# Altium footprint library Indutor.PcbLib: 32 footprints (part 1 of 2)
Each footprint in its own frame and in the unit in brackets; x right, y up, seen from the top. Pads: shape width x height; smd on the part's side, far side on the other; paste and mask are expansions set on the pad; w line width, h text height; cw(c..) or ccw(c..) is an arc to the next point about the centre after c.
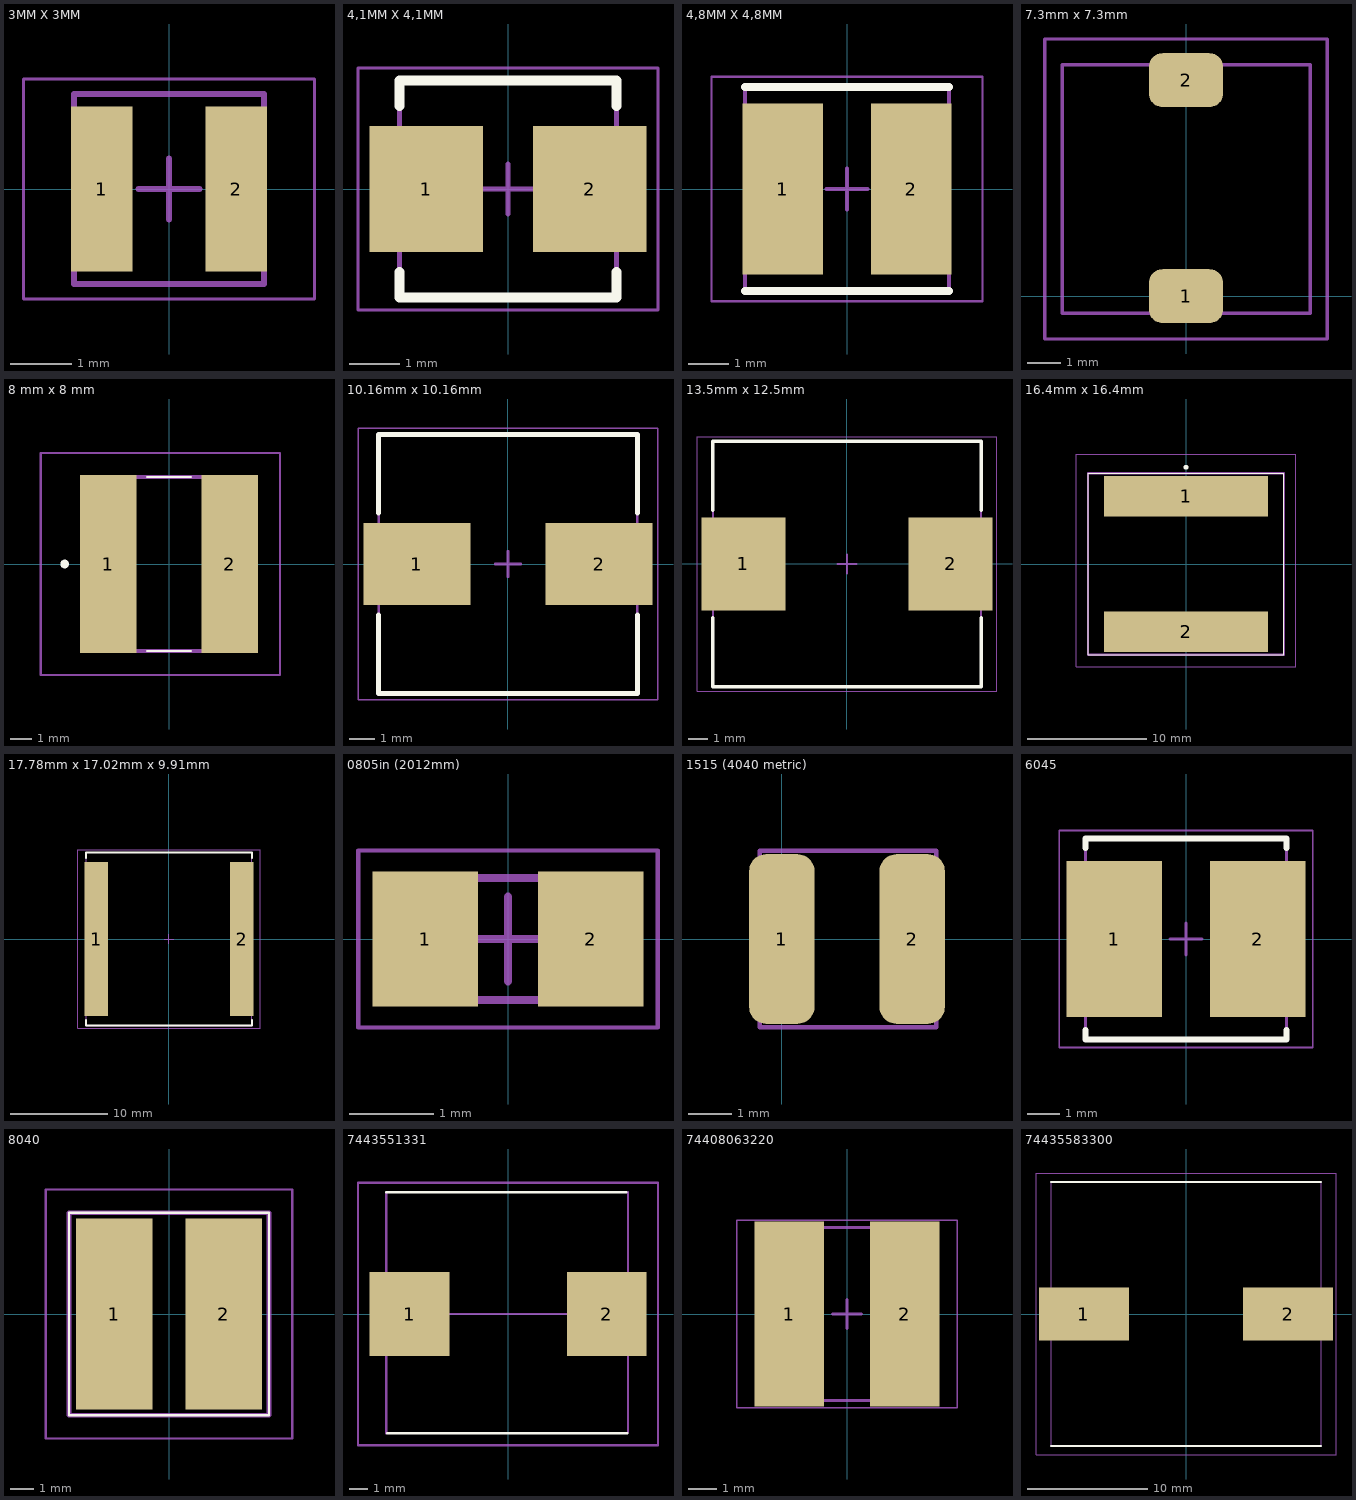
[diagram p0: the footprints below, top view; thin cyan lines are the x and y axes]

## 3MM X 3MM [mm]
height 1.5
pads (2):
  rect 1x2.7 smd: 1(-1.1,0) 2(1.1,0)
Mechanical 13:
  lines w0.1: -1.55,-1.55 1.55,-1.55 1.55,1.55 -1.55,1.55 -1.55,-1.55
Mechanical 15:
  lines w0.05: -2.375,-1.8 2.375,-1.8 2.375,1.8 -2.375,1.8 -2.375,-1.8
  lines w0.1: -0.5,0 0.5,0 ; 0,-0.5 0,0.5
3D body "3MM X 3MM.step": height 1.6, standoff 0, extent -1.6,-1.5 1.6,1.5

## 4,1MM X 4,1MM [mm] "Inductor"
height 2.1
pads (2):
  rect 2.25x2.5 smd: 1(-1.625,0) 2(1.625,0)
Top Overlay:
  lines w0.2: -2.15,-1.65 -2.15,-2.15 2.15,-2.15 2.15,-1.65 ; -2.15,1.65 -2.15,2.15 2.15,2.15 2.15,1.65
Mechanical 13:
  lines w0.1: -2.15,-2.15 -2.15,2.15 2.15,2.15 2.15,-2.15 -2.15,-2.15
Mechanical 15:
  lines w0.05: -2.975,-2.4 -2.975,2.4 2.975,2.4 2.975,-2.4 -2.975,-2.4
  lines w0.1: -0.5,0 0.5,0 ; 0,-0.5 0,0.5
3D body: height 2.1, standoff 0, extent -2.15,-2.15 2.15,2.15

## 4,8MM X 4,8MM [mm]
height 1.8
pads (2):
  rect 1.98x4.2 smd: 1(-1.575,0) 2(1.575,0)
Top Overlay:
  lines w0.2: -2.5,-2.5 2.5,-2.5 ; -2.5,2.5 2.5,2.5
Mechanical 13:
  lines w0.1: -2.5,-2.5 -2.5,2.5 2.5,2.5 2.5,-2.5 -2.5,-2.5
Mechanical 15:
  lines w0.05: -3.325,-2.75 -3.325,2.75 3.325,2.75 3.325,-2.75 -3.325,-2.75
  lines w0.1: -0.5,0 0.5,0 ; 0,-0.5 0,0.5
3D body: height 1.8, standoff 0, extent -2.5,-2.5 2.5,2.5

## 7.3mm x 7.3mm [mm]
pads (2):
  rrect50% 2.2x1.6 smd: 1(0,0) 2(0,6.4)
Mechanical 13:
  lines w0.1: -3.667,-0.508 3.683,-0.508 3.683,6.858 -3.667,6.858 -3.667,-0.508
Mechanical 15:
  lines w0.1: -4.191,-1.27 4.191,-1.27 4.191,7.62 -4.191,7.62 -4.191,-1.27
3D body "User Library-DE0704.STEP": height 4.5, standoff 0, extent -3.65,-0.45 3.65,6.85

## 8 mm x 8 mm [mm]
pads (2):
  rect 2.6x8.2 smd: 1(-2.8,0) 2(2.8,0)
Top Overlay:
  lines w0.1: -1,-4 1,-4 ; -1,4 1,4
  lines w0.2: -4.8,-0.1 ccw(c-4.8,0) -4.8,0.1 ccw(c-4.8,0) -4.8,-0.1
Mechanical 13:
  lines w0.2: -4,-4 4,-4 4,4 -4,4 -4,-4
Mechanical 15:
  lines w0.1: -5.9,-5.1 5.1,-5.1 5.1,5.1 -5.9,5.1 -5.9,-5.1
3D body "SRN8040-2R2Y.stp": height 3.95, standoff 0, extent -3.95,-4.075 3.95,4.075

## 10.16mm x 10.16mm [mm] "Precision Wire Wound Inductor, 2-Leads, Body 10,15x10,15mm, IPC Medium Density"
height 4
pads (2):
  rect 4.25x3.25 smd: 1(-3.625,0) 2(3.625,0)
Top Overlay:
  lines w0.2: -5.15,-2.025 -5.15,-5.15 5.15,-5.15 5.15,-2.025 ; -5.15,2.025 -5.15,5.15 5.15,5.15 5.15,2.025
Mechanical 13:
  lines w0.1: -5.15,-5.15 -5.15,5.15 5.15,5.15 5.15,-5.15 -5.15,-5.15
Mechanical 15:
  lines w0.05: -5.975,-5.4 -5.975,5.4 5.975,5.4 5.975,-5.4 -5.975,-5.4
  lines w0.1: -0.5,0 0.5,0 ; 0,-0.5 0,0.5
3D body: height 4, standoff 0, extent -5.15,-5.15 5.15,5.15

## 13.5mm x 12.5mm [mm] "Precision Wire Wound Inductor, 2-Leads, Body 13,50x12,50mm, IPC Medium Density"
height 6.5
pads (2):
  rect 4.4x4.85 smd: 1(-5.4,0) 2(5.4,0)
Top Overlay:
  lines w0.2: -7,-2.825 -7,-6.4 7,-6.4 7,-2.825 ; -7,2.825 -7,6.4 7,6.4 7,2.825
Mechanical 13:
  lines w0.1: -7,-6.4 7,-6.4 7,6.4 -7,6.4 -7,-6.4
Mechanical 15:
  lines w0.05: -7.825,-6.65 7.825,-6.65 7.825,6.65 -7.825,6.65 -7.825,-6.65
  lines w0.1: -0.5,0 0.5,0 ; 0,-0.5 0,0.5
3D body: height 6.5, standoff 0, extent -6.873,-6.273 7.127,6.527

## 16.4mm x 16.4mm [mm]
pads (2):
  rect 13.75x3.4 smd: 1(0,5.681) 2(0,-5.681)
Top Overlay:
  lines w0.1: -8.2,-7.6 8.2,-7.6 8.2,7.6 -8.2,7.6 -8.2,-7.6
  lines w0.2: -0.1,8.1 cw(c0,8.1) 0.1,8.1 cw(c0,8.1) -0.1,8.1
Mechanical 13:
  lines w0.2: -8.2,-7.6 8.2,-7.6 8.2,7.6 -8.2,7.6 -8.2,-7.6
Mechanical 15:
  lines w0.1: -9.2,-8.6 9.2,-8.6 9.2,9.2 -9.2,9.2 -9.2,-8.6
3D body "74439370150.stp": height 10.1, standoff 0, extent -8.2,-7.6 8.2,7.6

## 17.78mm x 17.02mm x 9.91mm [mm] "Precision Wire Wound Inductor, 2-Leads, Body 17,01x17,78mm, IPC Medium Density"
height 9.91
pads (2):
  rect 2.4x15.85 smd: 1(-7.495,0) 2(7.495,0)
Top Overlay:
  lines w0.2: -8.55,-8.325 -8.55,-8.9 8.55,-8.9 8.55,-8.325 ; -8.55,8.325 -8.55,8.9 8.55,8.9 8.55,8.325
Mechanical 13:
  lines w0.1: -8.52,-8.9 8.52,-8.9 8.52,8.9 -8.52,8.9 -8.52,-8.9
Mechanical 15:
  lines w0.05: -9.375,-9.15 9.375,-9.15 9.375,9.15 -9.375,9.15 -9.375,-9.15
  lines w0.1: -0.5,0 0.5,0 ; 0,-0.5 0,0.5
3D body "INDP170178X99N.step": height 10.01, standoff 0, extent -8.89,-8.89 8.89,8.89

## 0805in (2012mm) [mm] "Chip Inductor, 2-Leads, Body 2,00x1,25mm, IPC Medium Density"
height 1.25
pads (2):
  rect 1.25x1.6 smd: 1(-0.982,0) 2(0.982,0)
Mechanical 13:
  lines w0.1: -1.1,-0.725 -1.1,0.725 1.1,0.725 1.1,-0.725 -1.1,-0.725
Mechanical 15:
  lines w0.05: -1.778,-1.05 -1.778,1.05 1.778,1.05 1.778,-1.05 -1.778,-1.05
  lines w0.1: -0.5,0 0.5,0 ; 0,-0.5 0,0.5
3D body "INDC2012X12N.step": height 1.25, standoff 0, extent -1.1,-0.725 1.1,0.725

## 1515 (4040 metric) [mm]
pads (2):
  rrect50% 1.5x3.9 smd: 1(0,0) 2(3,0)
Mechanical 13:
  lines w0.1: -0.508,-2.032 -0.508,2.032 3.556,2.032 3.556,-2.032 -0.508,-2.032
3D body "User Library-IFSC-1515AH.STEP": height 1.8, standoff 0, extent -0.451,-1.975 3.499,1.975
3D body "User Library-IFSC-1515AH.STEP": height 1.8, standoff 0, extent -0.475,-1.975 3.475,1.975

## 6045 [mm] "Precision Wire Wound Inductor, 2-Leads, Body 6,00x6,00mm, IPC Medium Density"
height 4.5
pads (2):
  rect 3x4.9 smd: 1(-2.25,0) 2(2.25,0)
Top Overlay:
  lines w0.2: -3.15,-2.85 -3.15,-3.15 3.15,-3.15 3.15,-2.85 ; -3.15,2.85 -3.15,3.15 3.15,3.15 3.15,2.85
Mechanical 13:
  lines w0.1: -3.15,-3.15 3.15,-3.15 3.15,3.15 -3.15,3.15 -3.15,-3.15
Mechanical 15:
  lines w0.05: -3.975,-3.4 3.975,-3.4 3.975,3.4 -3.975,3.4 -3.975,-3.4
  lines w0.1: -0.5,0 0.5,0 ; 0,-0.5 0,0.5
3D body "INDP6060X45N.step": height 4.6, standoff 0, extent -3.1,-3 3.1,3

## 8040 [mm]
pads (2):
  rect 3.3x8.2 smd: 1(-2.35,0) 2(2.35,0)
Top Overlay:
  lines w0.1: -4.3,-4.35 4.3,-4.35 4.3,4.35 -4.3,4.35 -4.3,-4.35
Mechanical 13:
  lines w0.2: -4.3,-4.35 4.3,-4.35 4.3,4.35 -4.3,4.35 -4.3,-4.35
Mechanical 15:
  lines w0.1: -5.3,-5.35 5.3,-5.35 5.3,5.35 -5.3,5.35 -5.3,-5.35
3D body "VLP8040T-2R2N.stp": height 4.1, standoff 0, extent -4.3,-4.35 4.3,4.35

## 7443551331 [mm]
pads (2):
  rect 4.25x4.5 smd: 1(-5.25,0) 2(5.27,0)
Top Overlay:
  lines w0.127: -6.5,6.5 6.3,6.5 ; -6.45,-6.35 6.35,-6.35
Mechanical 13:
  lines w0.127: -6.5,-6.35 -6.5,6.45 ; -5,0 5,0 ; 6.4,-6.3 6.4,6.5
Mechanical 15:
  lines w0.127: -8,-7 -8,7 8,7 8,-7 -8,-7

## 74408063220 [mm] "Precision Wire Wound Inductor, 2-Leads, Body 5,90x5,90mm, IPC Medium Density"
height 2.85
pads (2):
  rect 2.4x6.4 smd: 1(-2,0) 2(2,0)
Mechanical 13:
  lines w0.1: -3,-3 3,-3 3,3 -3,3 -3,-3
Mechanical 15:
  lines w0.05: -3.825,-3.25 3.825,-3.25 3.825,3.25 -3.825,3.25 -3.825,-3.25
  lines w0.1: -0.5,0 0.5,0 ; 0,-0.5 0,0.5
3D body: height 2.85, standoff 0, extent -3,-3 3,3

## 74435583300 [mm]
pads (2):
  rect 7.5x4.4 smd: 1(-8.5,0) 2(8.5,0)
Top Overlay:
  lines w0.2: -11.25,-11 11.25,-11 ; -11.25,11 11.25,11
Mechanical 13:
  lines w0.1: -11.25,-11 11.25,-11 11.25,11 -11.25,11 -11.25,-11
Mechanical 15:
  lines w0.05: -12.5,-11.75 12.5,-11.75 12.5,11.75 -12.5,11.75 -12.5,-11.75
3D body "74435583300.stp": height 12.4, standoff 0, extent -11.25,-11 11.25,11